# Altium footprint library 860010772006.PcbLib: 1 footprints
Each footprint in its own frame and in the unit in brackets; x right, y up, seen from the top. Pads: shape width x height; smd on the part's side, far side on the other; paste and mask are expansions set on the pad; w line width, h text height; cw(c..) or ccw(c..) is an arc to the next point about the centre after c.
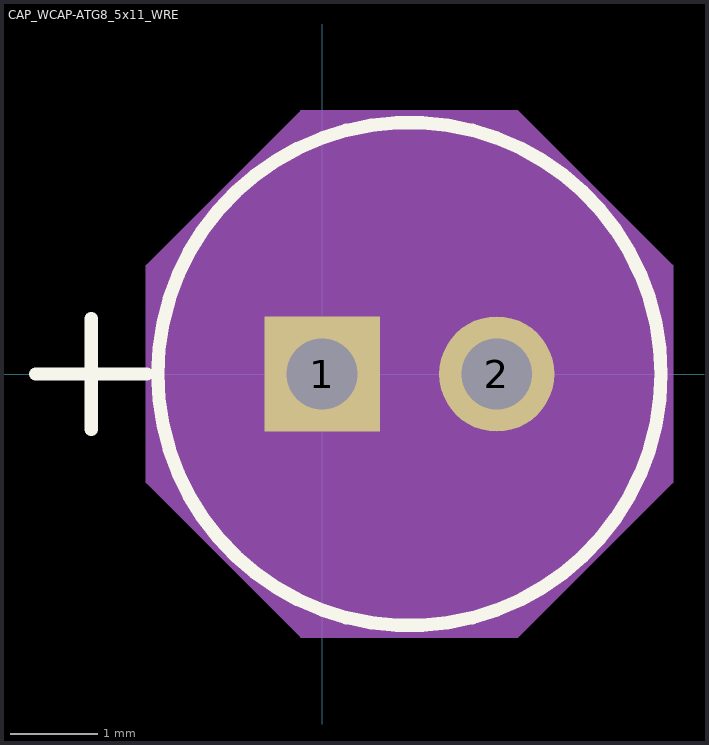
[diagram p0: the footprint, top view; thin cyan lines are the x and y axes]

## CAP_WCAP-ATG8_5x11_WRE [mil]
pads (2):
  rect 52x52 / inner round 60 / far side rect 52x52 hole 32 paste-99999 mask+0: 1(0,0)
  round 52 / inner round 60 / far side round 52 hole 32 paste-99999 mask+0: 2(78.74,0)
Top Overlay:
  circle w6: c39.37,0 r113.5
  lines w6: -129.13,0 -79.13,0 ; -104.13,-25 -104.13,25
Mechanical 13:
  circle w0: c39.37,0 r108.5
  lines w1: -129.13,0 -79.13,0 ; -104.13,-25 -104.13,25
Mechanical 15:
  region: -79.13,48.79 -9.42,118.5 88.16,118.5 157.87,48.79 157.87,-48.79 88.16,-118.5 -9.42,-118.5 -79.13,-48.79
  lines w1: -79.13,-48.79 -79.13,48.79 -9.42,118.5 88.16,118.5 157.87,48.79 157.87,-48.79 88.16,-118.5 -9.42,-118.5 -79.13,-48.79
3D body "CAP_WCAP-ATG8_5x11_WRE.step": height 482.6, standoff -165.98, extent -69.13,-108.38 149.03,108.38